# Altium schematic symbol library LIDAR-Lite v2.SchLib: 1 symbol
Pins are listed as number, name and electrical type; pins without a type are passive.

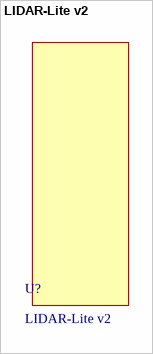
[diagram p0: symbol LIDAR-Lite v2]

## LIDAR-Lite v2
designator U?
footprint LIDAR-Lite v2